# Altium schematic symbol library Temperature Sensor.SchLib: 3 symbols
Pins are listed as number, name and electrical type; pins without a type are passive.

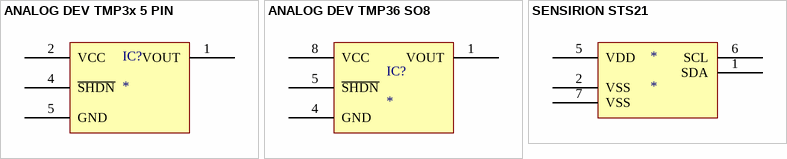
[diagram p0: symbols ANALOG DEV TMP3x 5 PIN to SENSIRION STS21]

## ANALOG DEV TMP3x 5 PIN
designator IC?
pins: 1 VOUT, 2 VCC, 4 ~{SHDN}, 5 GND

## ANALOG DEV TMP36 SO8
designator IC?
pins: 1 VOUT, 4 GND, 5 ~{SHDN}, 8 VCC

## SENSIRION STS21
designator *
pins: 1 SDA, 2 VSS, 5 VDD, 6 SCL, 7 VSS